# Altium schematic symbol library StLink.SchLib: 24 symbols (part 3 of 3)
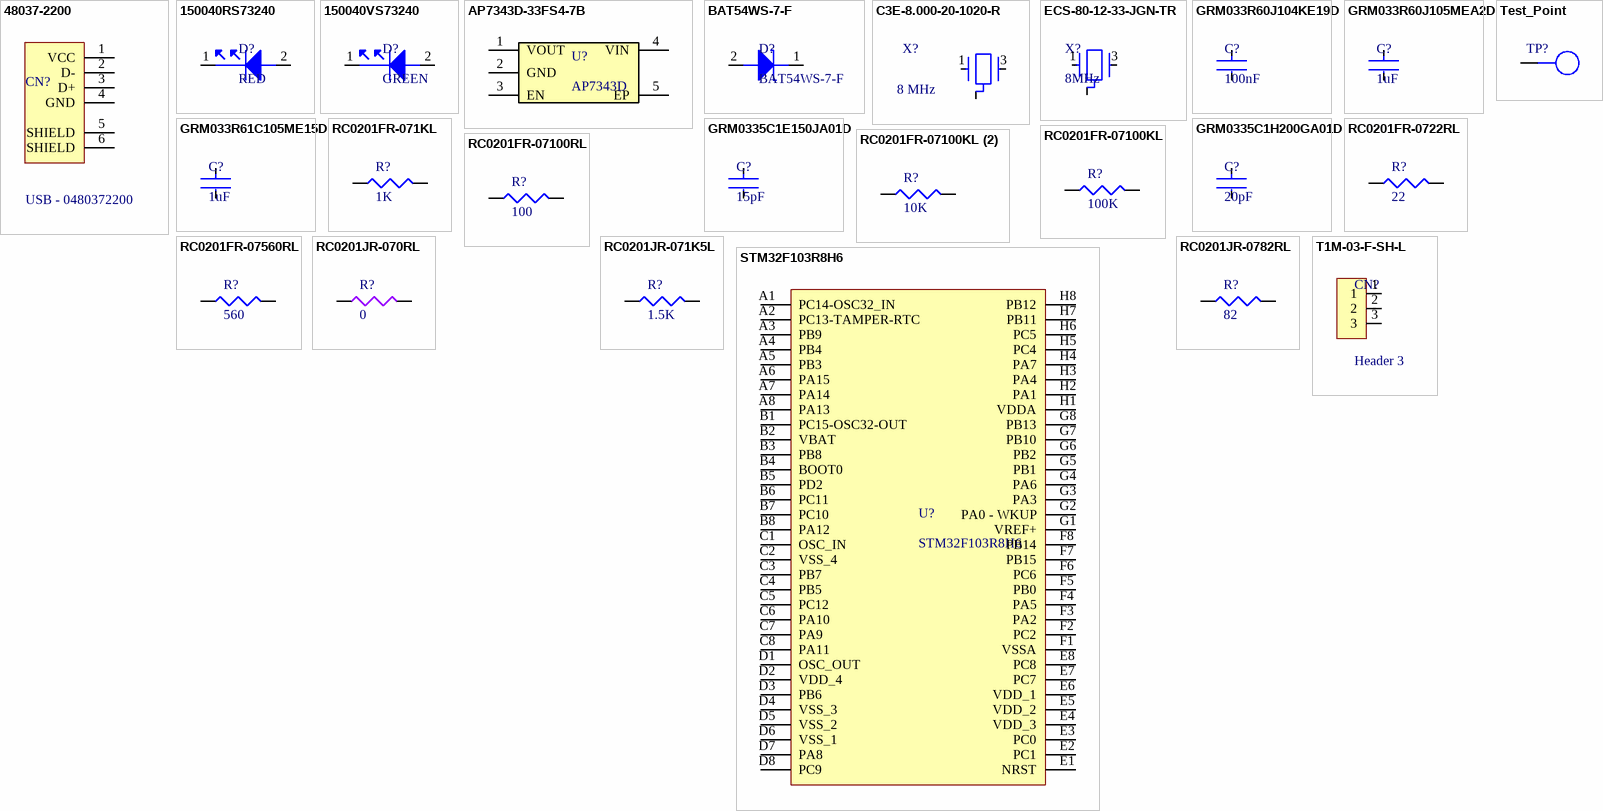
[diagram p2: symbols 48037-2200 to Test_Point]

## RC0201JR-070RL
designator R?, comment 0
GENERAL PURPOSE CHIP RESISTOR Metal Glaze/thick Film, 0.05W, 0ohm, Surface Mount, 0201; Manufacturer: Yageo Group; Manufacturer Part Number: RC0201JR-070RL; Max Power Dissipation: 50mW; Value: 0Ω; Temperature Coefficient: 200ppm/°C; Tolerance: 5%; Voltage Rating: 25V; Supplier: DigiKey; Supplier Part Number: 311-0.0NDKR-ND; RoHS: Compliant; Category: Chip SMD Resistors; Stock: 2082175; Pricing: 1=0,1, 10=0,019, 25=0,0156, 50=0,0138, 100=0,012, 250=0,01008, 500=0,0089, 1000=0,0079, 5000=0,00609 (USD); Case/Package: 0201; Case Code (Imperial): 0201; Case Code (Metric): 0603; China RoHS: Non-Compliant; Composition: Thick Film; Contact Plating: Tin; Depth: 300µm; Features: Moisture Resistant; Height: 230µm; Lead Free: Lead Free; Length: 600µm; Lifecycle Status: Production; Max Operating Temperature: 125°C; Military Standard: Not; Min Operating Temperature: -55°C; Mounting Technology: Surface Mount; Pins: 2; Number of Terminals: 2; Number of Terminations: 2; Packaging: Tape & Reel; Power Rating: 50mW; Radiation Hardening: No; REACH SVHC: Yes; Termination: SMD/SMT; Voltage Rating (DC): 25V; Weight: 170.097139µg; Width: 300µm; ComponentLink1URL: https://datasheet.octopart.com:443/RC0201JR-070RL-Yageo-datasheet-182189538.pdf?src-supplier=IHS; ComponentLink1Description: https://datasheet.octopart.com:443/RC0201JR-070RL-Yageo-datasheet-182189538.pdf?src-supplier=IHS; ComponentLink2URL: https://datasheet.octopart.com:443/RC0201JR-070RL-Yageo-datasheet-127823281.pdf?src-supplier=Upverter; ComponentLink2Description: https://datasheet.octopart.com:443/RC0201JR-070RL-Yageo-datasheet-127823281.pdf?src-supplier=Upverter; ComponentLink3URL: https://datasheet.octopart.com:443/RC0201JR-070RL-Yageo-Group-datasheet-190305687.pdf?src-supplier=Newark; ComponentLink3Description: https://datasheet.octopart.com:443/RC0201JR-070RL-Yageo-Group-datasheet-190305687.pdf?src-supplier=Newark; ComponentLink4URL: https://datasheet.octopart.com:443/RC0201JR-070RL-Yageo-datasheet-8325180.pdf?src-supplier=Newark; ComponentLink4Description: https://datasheet.octopart.com:443/RC0201JR-070RL-Yageo-datasheet-8325180.pdf?src-supplier=Newark; ComponentLink5URL: https://datasheet.octopart.com:443/RC0201JR-070RL-Yageo-datasheet-12509713.pdf?src-supplier=element14+APAC; ComponentLink5Description: https://datasheet.octopart.com:443/RC0201JR-070RL-Yageo-datasheet-12509713.pdf?src-supplier=element14+APAC; ComponentLink6URL: https://datasheet.octopart.com:443/RC0201JR-070RL-Yageo-datasheet-62067350.pdf?src-supplier=element14+APAC; ComponentLink6Description: https://datasheet.octopart.com:443/RC0201JR-070RL-Yageo-datasheet-62067350.pdf?src-supplier=element14+APAC; ComponentLink7URL: https://datasheet.octopart.com:443/RC0201JR-070RL-Yageo-datasheet-10911895.pdf?src-supplier=element14+APAC; ComponentLink7Description: https://datasheet.octopart.com:443/RC0201JR-070RL-Yageo-datasheet-10911895.pdf?src-supplier=element14+APAC; ComponentLink8URL: https://datasheet.octopart.com:443/RC0201JR-070RL-Yageo-Group-datasheet-176638170.pdf?src-supplier=Future+Electronics; ComponentLink8Description: https://datasheet.octopart.com:443/RC0201JR-070RL-Yageo-Group-datasheet-176638170.pdf?src-supplier=Future+Electronics; ComponentLink9URL: https://datasheet.octopart.com:443/RC0201JR-070RL-Yageo-datasheet-164759695.pdf?src-supplier=Future+Electronics; ComponentLink9Description: https://datasheet.octopart.com:443/RC0201JR-070RL-Yageo-datasheet-164759695.pdf?src-supplier=Future+Electronics; ComponentLink10URL: https://datasheet.octopart.com:443/RC0201JR-070RL-Yageo-datasheet-137700087.pdf?src-supplier=Future+Electronics; ComponentLink10Description: https://datasheet.octopart.com:443/RC0201JR-070RL-Yageo-datasheet-137700087.pdf?src-supplier=Future+Electronics; ComponentLink11URL: https://datasheet.octopart.com:443/RC0201JR-070RL-Yageo-datasheet-103092701.pdf?src-supplier=Future+Electronics; ComponentLink11Description: https://datasheet.octopart.com:443/RC0201JR-070RL-Yageo-datasheet-103092701.pdf?src-supplier=Future+Electronics; ComponentLink12URL: https://datasheet.octopart.com:443/RC0201JR-070RL-Yageo-datasheet-98239111.pdf?src-supplier=Future+Electronics; ComponentLink12Description: https://datasheet.octopart.com:443/RC0201JR-070RL-Yageo-datasheet-98239111.pdf?src-supplier=Future+Electronics; ComponentLink13URL: https://datasheet.octopart.com:443/RC0201JR-070RL-Yageo-datasheet-44382975.pdf?src-supplier=Future+Electronics; ComponentLink13Description: https://datasheet.octopart.com:443/RC0201JR-070RL-Yageo-datasheet-44382975.pdf?src-supplier=Future+Electronics; ComponentLink14URL: https://datasheet.octopart.com:443/RC0201JR-070RL-Yageo-datasheet-41589693.pdf?src-supplier=Future+Electronics; ComponentLink14Description: https://datasheet.octopart.com:443/RC0201JR-070RL-Yageo-datasheet-41589693.pdf?src-supplier=Future+Electronics; ComponentLink15URL: https://datasheet.octopart.com:443/RC0201JR-070RL-Yageo-datasheet-37140709.pdf?src-supplier=Future+Electronics; ComponentLink15Description: https://datasheet.octopart.com:443/RC0201JR-070RL-Yageo-datasheet-37140709.pdf?src-supplier=Future+Electronics; ComponentLink16URL: https://datasheet.octopart.com:443/RC0201JR-070RL-Yageo-datasheet-12590898.pdf?src-supplier=Future+Electronics; ComponentLink16Description: https://datasheet.octopart.com:443/RC0201JR-070RL-Yageo-datasheet-12590898.pdf?src-supplier=Future+Electronics; ComponentLink17URL: https://datasheet.octopart.com:443/RC0201JR-070RL-Yageo-datasheet-5319114.pdf?src-supplier=Future+Electronics; ComponentLink17Description: https://datasheet.octopart.com:443/RC0201JR-070RL-Yageo-datasheet-5319114.pdf?src-supplier=Future+Electronics; ComponentLink18URL: https://datasheet.octopart.com:443/RC0201JR-070RL-Yageo-datasheet-12535854.pdf?src-supplier=Future+Electronics; ComponentLink18Description: https://datasheet.octopart.com:443/RC0201JR-070RL-Yageo-datasheet-12535854.pdf?src-supplier=Future+Electronics; ComponentLink19URL: https://datasheet.octopart.com:443/RC0201JR-070RL-Yageo-datasheet-148775077.pdf?src-supplier=TME; ComponentLink19Description: https://datasheet.octopart.com:443/RC0201JR-070RL-Yageo-datasheet-148775077.pdf?src-supplier=TME; ComponentLink20URL: https://datasheet.octopart.com/RC0201JR-070RL-Yageo-datasheet-73766026.pdf; ComponentLink20Description: https://datasheet.octopart.com/RC0201JR-070RL-Yageo-datasheet-73766026.pdf; ComponentLink21URL: https://datasheet.octopart.com:443/RC0201JR-070RL-Yageo-datasheet-8701561.pdf?src-supplier=element14; ComponentLink21Description: https://datasheet.octopart.com:443/RC0201JR-070RL-Yageo-datasheet-8701561.pdf?src-supplier=element14; ComponentLink22URL: http://sigma.octopart.com:80/conflict_mineral_statement/Yageo-company-3.pdf?src-supplier=Compliance+Statements; ComponentLink22Description: http://sigma.octopart.com:80/conflict_mineral_statement/Yageo-company-3.pdf?src-supplier=Compliance+Statements; ComponentLink23URL: http://sigma.octopart.com:80/rohs_statement/Yageo-company-2.pdf?src-supplier=Compliance+Statements; ComponentLink23Description: http://sigma.octopart.com:80/rohs_statement/Yageo-company-2.pdf?src-supplier=Compliance+Statements; Supplier 1: DigiKey; Supplier Part Number 1: 311-0.0NDKR-ND
footprint R0201
pins: 1, 2

## RC0201JR-071K5L
designator R?, comment 1.5K
Res Thick Film 0201 1.5K Ohm 5% 0.05W(1/20W) ±200ppm/C Pad SMD T/R; Manufacturer: Yageo Group; Manufacturer Part Number: RC0201JR-071K5L; Max Power Dissipation: 50mW; Value: 1.5kΩ; Temperature Coefficient: 200ppm/°C; Voltage Rating: 25V; Supplier: DigiKey; Supplier Part Number: 311-1.5KNCT-ND; RoHS: Compliant; Category: Chip SMD Resistors; Stock: 229427; Pricing: 1=0,1, 10=0,028, 25=0,0204, 50=0,0166, 100=0,0135, 250=0,01048, 500=0,00878, 1000=0,00744, 5000=0,00534 (USD); Case/Package: 0201; Case Code (Imperial): 0201; Case Code (Metric): 0603; China RoHS: Non-Compliant; Composition: Thick Film; Contact Plating: Tin; Country of Origin: Mainland China, Taiwan; Depth: 300µm; Export Control Classification Number (ECCN) Code: EAR99; Features: Moisture Resistant; Height: 230µm; Harmonized Tariff Schedule (HTS) Code: 8533.21.00.30; Introduction Date: 2008-07-18; Lead Free: Lead Free; Length: 600µm; Lifecycle Status: Production; Max Operating Temperature: 125°C; Military Standard: Not; Min Operating Temperature: -55°C; Mounting Technology: Surface Mount; Pins: 2; Number of Terminals: 2; Number of Terminations: 2; Packaging: Tape & Reel; Power Rating: 50mW; Radiation Hardening: No; REACH SVHC: Yes; Schedule B: 8533210045, 8533210045|8533210045|8533210045|8533210045|8533210045; Termination: SMD/SMT; Tolerance: 5%; Voltage Rating (DC): 25V; Width: 300µm; Working Voltage: 25V; ComponentLink1URL: https://datasheet.octopart.com:443/RC0201JR-071K5L-Yageo-datasheet-175887523.pdf?src-supplier=IHS; ComponentLink1Description: https://datasheet.octopart.com:443/RC0201JR-071K5L-Yageo-datasheet-175887523.pdf?src-supplier=IHS; ComponentLink2URL: https://datasheet.octopart.com:443/RC0201JR-071K5L-Yageo-Group-datasheet-176638170.pdf?src-supplier=Future+Electronics; ComponentLink2Description: https://datasheet.octopart.com:443/RC0201JR-071K5L-Yageo-Group-datasheet-176638170.pdf?src-supplier=Future+Electronics; ComponentLink3URL: https://datasheet.octopart.com:443/RC0201JR-071K5L-Yageo-datasheet-164759695.pdf?src-supplier=Future+Electronics; ComponentLink3Description: https://datasheet.octopart.com:443/RC0201JR-071K5L-Yageo-datasheet-164759695.pdf?src-supplier=Future+Electronics; ComponentLink4URL: https://datasheet.octopart.com:443/RC0201JR-071K5L-Yageo-datasheet-127823281.pdf?src-supplier=Future+Electronics; ComponentLink4Description: https://datasheet.octopart.com:443/RC0201JR-071K5L-Yageo-datasheet-127823281.pdf?src-supplier=Future+Electronics; ComponentLink5URL: https://datasheet.octopart.com:443/RC0201JR-071K5L-Yageo-datasheet-137700087.pdf?src-supplier=Future+Electronics; ComponentLink5Description: https://datasheet.octopart.com:443/RC0201JR-071K5L-Yageo-datasheet-137700087.pdf?src-supplier=Future+Electronics; ComponentLink6URL: https://datasheet.octopart.com:443/RC0201JR-071K5L-Yageo-datasheet-103092701.pdf?src-supplier=Future+Electronics; ComponentLink6Description: https://datasheet.octopart.com:443/RC0201JR-071K5L-Yageo-datasheet-103092701.pdf?src-supplier=Future+Electronics; ComponentLink7URL: https://datasheet.octopart.com:443/RC0201JR-071K5L-Yageo-datasheet-98239111.pdf?src-supplier=Future+Electronics; ComponentLink7Description: https://datasheet.octopart.com:443/RC0201JR-071K5L-Yageo-datasheet-98239111.pdf?src-supplier=Future+Electronics; ComponentLink8URL: https://datasheet.octopart.com:443/RC0201JR-071K5L-Yageo-datasheet-79472498.pdf?src-supplier=Future+Electronics; ComponentLink8Description: https://datasheet.octopart.com:443/RC0201JR-071K5L-Yageo-datasheet-79472498.pdf?src-supplier=Future+Electronics; ComponentLink9URL: https://datasheet.octopart.com:443/RC0201JR-071K5L-Yageo-datasheet-12535854.pdf?src-supplier=Future+Electronics; ComponentLink9Description: https://datasheet.octopart.com:443/RC0201JR-071K5L-Yageo-datasheet-12535854.pdf?src-supplier=Future+Electronics; ComponentLink10URL: https://datasheet.octopart.com/RC0201JR-071K5L-Yageo-datasheet-73766026.pdf; ComponentLink10Description: https://datasheet.octopart.com/RC0201JR-071K5L-Yageo-datasheet-73766026.pdf; ComponentLink11URL: https://datasheet.octopart.com:443/RC0201JR-071K5L-Yageo-datasheet-10911895.pdf?src-supplier=Farnell; ComponentLink11Description: https://datasheet.octopart.com:443/RC0201JR-071K5L-Yageo-datasheet-10911895.pdf?src-supplier=Farnell; ComponentLink12URL: https://datasheet.octopart.com:443/RC0201JR-071K5L-Yageo-datasheet-8325180.pdf?src-supplier=Farnell; ComponentLink12Description: https://datasheet.octopart.com:443/RC0201JR-071K5L-Yageo-datasheet-8325180.pdf?src-supplier=Farnell; ComponentLink13URL: http://sigma.octopart.com:80/conflict_mineral_statement/Yageo-company-3.pdf?src-supplier=Compliance+Statements; ComponentLink13Description: http://sigma.octopart.com:80/conflict_mineral_statement/Yageo-company-3.pdf?src-supplier=Compliance+Statements; ComponentLink14URL: http://sigma.octopart.com:80/rohs_statement/Yageo-company-2.pdf?src-supplier=Compliance+Statements; ComponentLink14Description: http://sigma.octopart.com:80/rohs_statement/Yageo-company-2.pdf?src-supplier=Compliance+Statements; Supplier 1: DigiKey; Supplier Part Number 1: 311-1.5KNCT-ND
footprint R0201
pins: 1, 2

## RC0201JR-0782RL
designator R?, comment 82
Res Thick Film 0201 82 Ohm 5% 0.05W(1/20W) ±200ppm/C Pad SMD T/R; Manufacturer: Yageo Group; Manufacturer Part Number: RC0201JR-0782RL; Max Power Dissipation: 50mW; Value: 82Ω; Temperature Coefficient: 200ppm/°C; Voltage Rating: 25V; Supplier: DigiKey; Supplier Part Number: YAG2365CT-ND; RoHS: Compliant; Category: Chip SMD Resistors; Stock: 21905; Pricing: 1=0,1, 10=0,028, 25=0,0204, 50=0,0166, 100=0,0135, 250=0,01048, 500=0,00878, 1000=0,00744, 5000=0,00534 (USD); Case/Package: 0201; Case Code (Imperial): 0201; Case Code (Metric): 0603; China RoHS: Non-Compliant; Composition: Thick Film; Contact Plating: Tin; Features: Moisture Resistant; Height: 230µm; Lead Free: Lead Free; Length: 600µm; Lifecycle Status: Production; Max Operating Temperature: 125°C; Min Operating Temperature: -55°C; Mounting Technology: Surface Mount; Number of Terminals: 2; Number of Terminations: 2; Power Rating: 50mW; Radiation Hardening: No; REACH SVHC: Yes; Termination: SMD/SMT; Tolerance: 5%; Width: 300µm; Working Voltage: 25V; ComponentLink1URL: https://datasheet.octopart.com:443/RC0201JR-0782RL-Yageo-datasheet-175887523.pdf?src-supplier=IHS; ComponentLink1Description: https://datasheet.octopart.com:443/RC0201JR-0782RL-Yageo-datasheet-175887523.pdf?src-supplier=IHS; ComponentLink2URL: https://datasheet.octopart.com:443/RC0201JR-0782RL-Yageo-Group-datasheet-176638170.pdf?src-supplier=Future+Electronics; ComponentLink2Description: https://datasheet.octopart.com:443/RC0201JR-0782RL-Yageo-Group-datasheet-176638170.pdf?src-supplier=Future+Electronics; ComponentLink3URL: https://datasheet.octopart.com:443/RC0201JR-0782RL-Yageo-datasheet-164759695.pdf?src-supplier=Future+Electronics; ComponentLink3Description: https://datasheet.octopart.com:443/RC0201JR-0782RL-Yageo-datasheet-164759695.pdf?src-supplier=Future+Electronics; ComponentLink4URL: https://datasheet.octopart.com:443/RC0201JR-0782RL-Yageo-datasheet-127823281.pdf?src-supplier=Future+Electronics; ComponentLink4Description: https://datasheet.octopart.com:443/RC0201JR-0782RL-Yageo-datasheet-127823281.pdf?src-supplier=Future+Electronics; ComponentLink5URL: https://datasheet.octopart.com:443/RC0201JR-0782RL-Yageo-datasheet-137700087.pdf?src-supplier=Future+Electronics; ComponentLink5Description: https://datasheet.octopart.com:443/RC0201JR-0782RL-Yageo-datasheet-137700087.pdf?src-supplier=Future+Electronics; ComponentLink6URL: https://datasheet.octopart.com:443/RC0201JR-0782RL-Yageo-datasheet-103092701.pdf?src-supplier=Future+Electronics; ComponentLink6Description: https://datasheet.octopart.com:443/RC0201JR-0782RL-Yageo-datasheet-103092701.pdf?src-supplier=Future+Electronics; ComponentLink7URL: https://datasheet.octopart.com:443/RC0201JR-0782RL-Yageo-datasheet-98239111.pdf?src-supplier=Future+Electronics; ComponentLink7Description: https://datasheet.octopart.com:443/RC0201JR-0782RL-Yageo-datasheet-98239111.pdf?src-supplier=Future+Electronics; ComponentLink8URL: https://datasheet.octopart.com:443/RC0201JR-0782RL-Yageo-datasheet-37140709.pdf?src-supplier=Future+Electronics; ComponentLink8Description: https://datasheet.octopart.com:443/RC0201JR-0782RL-Yageo-datasheet-37140709.pdf?src-supplier=Future+Electronics; ComponentLink9URL: https://datasheet.octopart.com:443/RC0201JR-0782RL-Yageo-datasheet-12590898.pdf?src-supplier=Future+Electronics; ComponentLink9Description: https://datasheet.octopart.com:443/RC0201JR-0782RL-Yageo-datasheet-12590898.pdf?src-supplier=Future+Electronics; ComponentLink10URL: https://datasheet.octopart.com:443/RC0201JR-0782RL-Yageo-datasheet-12509713.pdf?src-supplier=Future+Electronics; ComponentLink10Description: https://datasheet.octopart.com:443/RC0201JR-0782RL-Yageo-datasheet-12509713.pdf?src-supplier=Future+Electronics; ComponentLink11URL: https://datasheet.octopart.com:443/RC0201JR-0782RL-Yageo-datasheet-8325180.pdf?src-supplier=Future+Electronics; ComponentLink11Description: https://datasheet.octopart.com:443/RC0201JR-0782RL-Yageo-datasheet-8325180.pdf?src-supplier=Future+Electronics; ComponentLink12URL: https://datasheet.octopart.com:443/RC0201JR-0782RL-Yageo-datasheet-12535854.pdf?src-supplier=Future+Electronics; ComponentLink12Description: https://datasheet.octopart.com:443/RC0201JR-0782RL-Yageo-datasheet-12535854.pdf?src-supplier=Future+Electronics; ComponentLink13URL: https://datasheet.octopart.com/RC0201JR-0782RL-Yageo-datasheet-73766026.pdf; ComponentLink13Description: https://datasheet.octopart.com/RC0201JR-0782RL-Yageo-datasheet-73766026.pdf; ComponentLink14URL: http://sigma.octopart.com:80/conflict_mineral_statement/Yageo-company-3.pdf?src-supplier=Compliance+Statements; ComponentLink14Description: http://sigma.octopart.com:80/conflict_mineral_statement/Yageo-company-3.pdf?src-supplier=Compliance+Statements; ComponentLink15URL: http://sigma.octopart.com:80/rohs_statement/Yageo-company-2.pdf?src-supplier=Compliance+Statements; ComponentLink15Description: http://sigma.octopart.com:80/rohs_statement/Yageo-company-2.pdf?src-supplier=Compliance+Statements; Supplier 1: DigiKey; Supplier Part Number 1: YAG2365CT-ND
footprint R0201
pins: 1, 2

## STM32F103R8H6
designator U?
MCU 32-bit STM32F ARM Cortex M3 RISC 64KB Flash 2.5V/3.3V 64-Pin TFBGA Tray; Manufacturer: STMicroelectronics; ADC Channels (Resolution): 16-Ch 12-Bit; Data Bus Width: 32b; EEPROM Memory Size: 0B; Frequency: 72MHz; Interface: CAN, USB; Clock Frequency: 16MHz; Max Power Dissipation: 308mW; Max Supply Current: 50mA; Max Supply Voltage: 3.6V; Min Supply Voltage: 2V; Nominal Supply Current: 1.7µA; Number of A/D Converters: 2; Number of ADC Channels: 16; Number of I/Os: 51; Number of Timers/Counters: 4; Number of USART Channels: 3; Operating Supply Voltage: 3.3V; Oscillator Type: Internal; Peripherals: POR; RAM Size: 20kB; Watchdog Timer: Yes; Supplier: DigiKey; Supplier Part Number: 497-11523-ND; Manufacturer Part Number: STM32F103R8H6; RoHS: Compliant; Category: Microcontrollers; Pricing: 3840=4,08947 (USD); Case/Package: FBGA; China RoHS: Compliant; Core Architecture: ARM; Country of Origin: Malaysia; Export Control Classification Number (ECCN) Code: 3A991.A.2; Flash Memory Size: 64kB; Height: 785µm; Harmonized Tariff Schedule (HTS) Code: 8542.31.00.30; Introduction Date: 2007-06-07; Lead Free: Lead Free; Length: 5mm; Lifecycle Status: Production; Max Operating Temperature: 85°C; Memory Size: 64kB; Memory Format: FLASH; Min Operating Temperature: -40°C; Number of I2C Channels: 2; Pins: 64; Number of Programmable I/O: 51; Number of SPI Channels: 2; Number of Terminals: 64; Radiation Hardening: No; REACH SVHC: Yes; Temperature Grade: Industrial; Terminal Pitch: 500µm; Width: 5mm; ComponentLink1URL: https://datasheet.octopart.com:443/STM32F103R8H6-STMicroelectronics-datasheet-177520228.pdf?src-supplier=IHS; ComponentLink1Description: https://datasheet.octopart.com:443/STM32F103R8H6-STMicroelectronics-datasheet-177520228.pdf?src-supplier=IHS; ComponentLink2URL: https://datasheet.octopart.com:443/STM32F103R8H6-STMicroelectronics-datasheet-14363502.pdf?src-supplier=Upverter; ComponentLink2Description: https://datasheet.octopart.com:443/STM32F103R8H6-STMicroelectronics-datasheet-14363502.pdf?src-supplier=Upverter; ComponentLink3URL: https://datasheet.octopart.com:443/STM32F103R8H6-STMicroelectronics-datasheet-48026265.pdf?src-supplier=Farnell; ComponentLink3Description: https://datasheet.octopart.com:443/STM32F103R8H6-STMicroelectronics-datasheet-48026265.pdf?src-supplier=Farnell; ComponentLink4URL: https://datasheet.octopart.com:443/STM32F103R8H6-STMicroelectronics-datasheet-21407612.pdf?src-supplier=Farnell; ComponentLink4Description: https://datasheet.octopart.com:443/STM32F103R8H6-STMicroelectronics-datasheet-21407612.pdf?src-supplier=Farnell; ComponentLink5URL: https://datasheet.octopart.com:443/STM32F103R8H6-STMicroelectronics-datasheet-16809485.pdf?src-supplier=Farnell; ComponentLink5Description: https://datasheet.octopart.com:443/STM32F103R8H6-STMicroelectronics-datasheet-16809485.pdf?src-supplier=Farnell; ComponentLink6URL: https://datasheet.octopart.com:443/STM32F103R8H6-STMicroelectronics-datasheet-10330614.pdf?src-supplier=Newark; ComponentLink6Description: https://datasheet.octopart.com:443/STM32F103R8H6-STMicroelectronics-datasheet-10330614.pdf?src-supplier=Newark; ComponentLink7URL: https://datasheet.octopart.com:443/STM32F103R8H6-STMicroelectronics-datasheet-500013.pdf?src-supplier=Factory+Futures; ComponentLink7Description: https://datasheet.octopart.com:443/STM32F103R8H6-STMicroelectronics-datasheet-500013.pdf?src-supplier=Factory+Futures; ComponentLink8URL: https://datasheet.octopart.com:443/STM32F103R8H6-STMicroelectronics-datasheet-6396519.pdf?src-supplier=Augswan; ComponentLink8Description: https://datasheet.octopart.com:443/STM32F103R8H6-STMicroelectronics-datasheet-6396519.pdf?src-supplier=Augswan; ComponentLink9URL: https://datasheet.octopart.com:443/STM32F103R8H6-STMicroelectronics-datasheet-14106722.pdf?src-supplier=iiiC; ComponentLink9Description: https://datasheet.octopart.com:443/STM32F103R8H6-STMicroelectronics-datasheet-14106722.pdf?src-supplier=iiiC; ComponentLink10URL: https://datasheet.octopart.com:443/STM32F103R8H6-STMicroelectronics-datasheet-8700640.pdf?src-supplier=Arrow+Electronics; ComponentLink10Description: https://datasheet.octopart.com:443/STM32F103R8H6-STMicroelectronics-datasheet-8700640.pdf?src-supplier=Arrow+Electronics; Supplier 1: DigiKey; Supplier Part Number 1: 497-11523-ND
footprint Micro BGA
pins: A1 PC14-OSC32_IN, A2 PC13-TAMPER-RTC, A3 PB9, A4 PB4, A5 PB3, A6 PA15, A7 PA14, A8 PA13, B1 PC15-OSC32-OUT, B2 VBAT, B3 PB8, B4 BOOT0, B5 PD2, B6 PC11, B7 PC10, B8 PA12, C1 OSC_IN, C2 VSS_4, C3 PB7, C4 PB5, C5 PC12, C6 PA10, C7 PA9, C8 PA11, D1 OSC_OUT, D2 VDD_4, D3 PB6, D4 VSS_3, D5 VSS_2, D6 VSS_1, D7 PA8, D8 PC9, E1 NRST, E2 PC1, E3 PC0, E4 VDD_3, E5 VDD_2, E6 VDD_1, E7 PC7, E8 PC8, F1 VSSA, F2 PC2, F3 PA2, F4 PA5, F5 PB0, F6 PC6, F7 PB15, F8 PB14, G1 VREF+, G2 PA0 - WKUP, G3 PA3, G4 PA6, G5 PB1, G6 PB2, G7 PB10, G8 PB13, H1 VDDA, H2 PA1, H3 PA4, H4 PA7, H5 PC4, H6 PC5, H7 PB11, H8 PB12

## T1M-03-F-SH-L
designator CN?, comment Header 3
Conn Shrouded Header (4 Sides) HDR 3 POS 1mm Solder RA Side Entry SMD Micro Mate™ Bulk; Manufacturer: Samtec; Manufacturer Part Number: T1M-03-F-SH-L; Manufacturer Lifecycle Status: PRODUCTION; Supplier: DigiKey; Supplier Part Number: 612-T1M-03-F-SH-LCT-ND; Category: Headers and Wire Housings; Stock: 680; Pricing: 1=2,07, 10=1,76, 25=1,6492, 50=1,5704, 100=1,4953, 250=1,40164 (USD); Color: Natural; Lifecycle Status: Production; Pins: 3; Orientation: Vertical; ComponentLink1URL: https://datasheet.octopart.com:443/T1M-03-F-SH-L-Samtec-datasheet-97293726.pdf?src-supplier=Samtec; ComponentLink1Description: https://datasheet.octopart.com:443/T1M-03-F-SH-L-Samtec-datasheet-97293726.pdf?src-supplier=Samtec; ComponentLink2URL: https://sigma.octopart.com:443/97293727/technical_drawing/Samtec-T1M-03-F-SH-L.pdf?src-supplier=Samtec; ComponentLink2Description: https://sigma.octopart.com:443/97293727/technical_drawing/Samtec-T1M-03-F-SH-L.pdf?src-supplier=Samtec; ComponentLink3URL: https://datasheet.octopart.com:443/T1M-03-F-SH-L-Samtec-datasheet-129018845.pdf?src-supplier=element14+APAC; ComponentLink3Description: https://datasheet.octopart.com:443/T1M-03-F-SH-L-Samtec-datasheet-129018845.pdf?src-supplier=element14+APAC; ComponentLink4URL: https://datasheet.octopart.com:443/T1M-03-F-SH-L-Samtec-datasheet-148850559.pdf?src-supplier=Toby+Electronics; ComponentLink4Description: https://datasheet.octopart.com:443/T1M-03-F-SH-L-Samtec-datasheet-148850559.pdf?src-supplier=Toby+Electronics; ComponentLink5URL: https://datasheet.octopart.com:443/T1M-03-F-SH-L-Samtec-datasheet-116535276.pdf?src-supplier=Toby+Electronics; ComponentLink5Description: https://datasheet.octopart.com:443/T1M-03-F-SH-L-Samtec-datasheet-116535276.pdf?src-supplier=Toby+Electronics; ComponentLink6URL: https://datasheet.octopart.com:443/T1M-03-F-SH-L-Samtec-datasheet-136395486.pdf?src-supplier=Toby+Electronics; ComponentLink6Description: https://datasheet.octopart.com:443/T1M-03-F-SH-L-Samtec-datasheet-136395486.pdf?src-supplier=Toby+Electronics; ComponentLink7URL: https://datasheet.octopart.com:443/T1M-03-F-SH-L-Samtec-datasheet-86810868.pdf?src-supplier=Sager+Electronics; ComponentLink7Description: https://datasheet.octopart.com:443/T1M-03-F-SH-L-Samtec-datasheet-86810868.pdf?src-supplier=Sager+Electronics; Supplier 1: DigiKey; Supplier Part Number 1: 612-T1M-03-F-SH-LCT-ND
footprint H3x1
pins: 1, 2, 3

## Test_Point
designator TP?  (value not drawn)
footprint PAD
pins: 1